# Altium footprint library Transformers.PcbLib: 2 footprints
Each footprint in its own frame and in the unit in brackets; x right, y up, seen from the top. Pads: shape width x height; smd on the part's side, far side on the other; paste and mask are expansions set on the pad; w line width, h text height; cw(c..) or ccw(c..) is an arc to the next point about the centre after c.
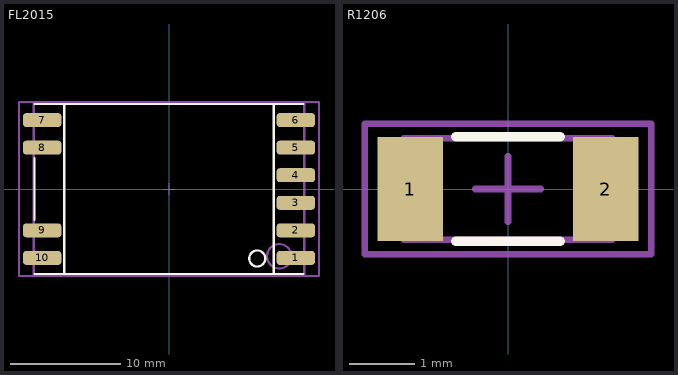
[diagram p0: the footprints below, top view; thin cyan lines are the x and y axes]

## FL2015 [mm] "Coilcraft CCFL transformer"
height 7.9
pads (10):
  rrect50% 3.5x1.27 smd: 1(11.5,-6.25) 2(11.5,-3.75) 3(11.5,-1.25) 4(11.5,1.25) 5(11.5,3.75) 6(11.5,6.25) 7(-11.5,6.25) 8(-11.5,3.75) 9(-11.5,-3.75) 10(-11.5,-6.25)
Top Overlay:
  circle w0.2: c8,-6.3 r0.728
  lines w0.2: -12.2,-7.7 -9.5,-7.7 ; -12.2,-2.8 -12.2,2.8 ; -12.2,7.7 -9.5,7.7 ; 12.2,-7.7 9.5,-7.7 ; 12.2,7.7 9.5,7.7 ; -9.5,-7.7 -9.5,7.7 ; -9.5,-7.7 9.5,-7.7 ; -9.5,7.7 9.5,7.7 ; 9.5,-7.7 9.5,7.7
Top Assembly (Mech3):
  circle w0.2: c10,-6.1 r1.105
  lines w0.2: -12.26,-7.745 12.26,-7.745 12.26,7.745 -12.26,7.745 -12.26,-7.745
Top Courtyard:
  lines w0.1: -0.5,0 0.5,0 ; 0,-0.5 0,0.5
  lines w0.2: -13.6,-7.9 -13.6,7.9 13.6,7.9 13.6,-7.9 -13.6,-7.9
3D body "Coilcraft-FL2015-5L.STEP": height 7.8, standoff 0, extent -12.26,-7.745 12.26,7.745

## R1206 [mm]
height 0.6
pads (2):
  rect 1x1.6 smd: 1(-1.5,0) 2(1.5,0)
Top Overlay:
  lines w0.15: -0.8,-0.8 0.8,-0.8 ; -0.8,0.8 0.8,0.8
Top Assembly (Mech3):
  lines w0.1: -1.6,-0.775 -1.6,0.775 1.6,0.775 1.6,-0.775 -1.6,-0.775
Top Courtyard:
  lines w0.1: -0.5,0 0.5,0 ; 0,-0.5 0,0.5 ; -2.2,-1 2.2,-1 2.2,1 -2.2,1 -2.2,-1
3D body "chip_1206_r.STEP": height 0.47, standoff -0.03, extent -1.65,-0.8 1.55,0.8